# EAGLE library part BB_BLACK (library OpenMotics)
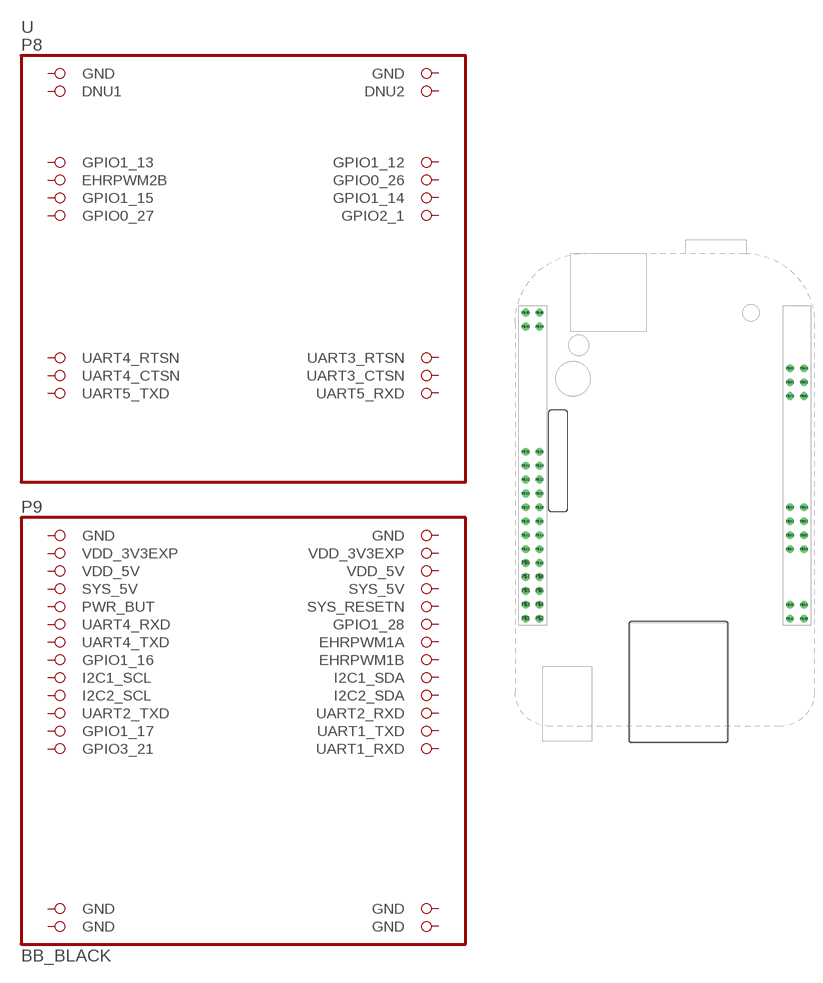
[diagram p21: symbol with the pads of BB_BLACK_PINS; footprint BB_BLACK_PINS]

Designator prefix U

## BB_BLACK  [BB_BLACK_PINS]
P$1  GND  pwr
P$2  GND  pwr
P$3  VDD_3V3EXP  pwr
P$4  VDD_3V3EXP  pwr
P$5  VDD_5V  pwr
P$6  VDD_5V  pwr
P$7  SYS_5V  pas
P$8  SYS_5V  pas
P$9  PWR_BUT  pas
P$10  SYS_RESETN  pas
P$11  UART4_RXD  pas
P$12  GPIO1_28  pas
P$13  UART4_TXD  pas
P$14  EHRPWM1A  pas
P$15  GPIO1_16  pas
P$16  EHRPWM1B  pas
P$17  I2C1_SCL  pas
P$18  I2C1_SDA  pas
P$19  I2C2_SCL  pas
P$20  I2C2_SDA  pas
P$21  UART2_TXD  pas
P$22  UART2_RXD  pas
P$23  GPIO1_17  pas
P$24  UART1_TXD  pas
P$25  GPIO3_21  pas
P$26  UART1_RXD  pas
P$43  GND  in
P$44  GND  in
P$45  GND  in
P$46  GND  in
P$47  GND  pwr
P$48  GND  pwr
P$49  DNU1  pwr
P$50  DNU2  pwr
P$57  GPIO1_13  pas
P$58  GPIO1_12  pas
P$59  EHRPWM2B  pas
P$60  GPIO0_26  pas
P$61  GPIO1_15  pas
P$62  GPIO1_14  pas
P$63  GPIO0_27  pas
P$64  GPIO2_1  pas
P$79  UART4_RTSN  pas
P$80  UART3_RTSN  pas
P$81  UART4_CTSN  pas
P$82  UART3_CTSN  pas
P$83  UART5_TXD  pas
P$84  UART5_RXD  pas

## Footprint BB_BLACK_PINS (pad centres in mm)
drill 0.9 round: P$1 -25.4,19.685; P$2 -22.86,19.685; P$3 -25.4,22.225; P$4 -22.86,22.225; P$5 -25.4,24.765; P$6 -22.86,24.765; P$7 -25.4,27.305; P$8 -22.86,27.305; P$9 -25.4,29.845; P$10 -22.86,29.845; P$11 -25.4,32.385; P$12 -22.86,32.385; P$13 -25.4,34.925; P$14 -22.86,34.925; P$15 -25.4,37.465; P$16 -22.86,37.465; P$17 -25.4,40.005; P$18 -22.86,40.005; P$19 -25.4,42.545; P$20 -22.86,42.545; P$21 -25.4,45.085; P$22 -22.86,45.085; P$23 -25.4,47.625; P$24 -22.86,47.625; P$25 -25.4,50.165; P$26 -22.86,50.165; P$43 -25.4,73.025; P$44 -22.86,73.025; P$45 -25.4,75.565; P$46 -22.86,75.565; P$47 22.86,19.685; P$48 25.4,19.685; P$49 22.86,22.225; P$50 25.4,22.225; P$57 22.86,32.385; P$58 25.4,32.385; P$59 22.86,34.925; P$60 25.4,34.925; P$61 22.86,37.465; P$62 25.4,37.465; P$63 22.86,40.005; P$64 25.4,40.005; P$79 22.86,60.325; P$80 25.4,60.325; P$81 22.86,62.865; P$82 25.4,62.865; P$83 22.86,65.405; P$84 25.4,65.405